# Altium footprint library BGA - Rectangle.PcbLib: 7 footprints
Each footprint in its own frame and in the unit in brackets; x right, y up, seen from the top. Pads: shape width x height; smd on the part's side, far side on the other; paste and mask are expansions set on the pad; w line width, h text height; cw(c..) or ccw(c..) is an arc to the next point about the centre after c.
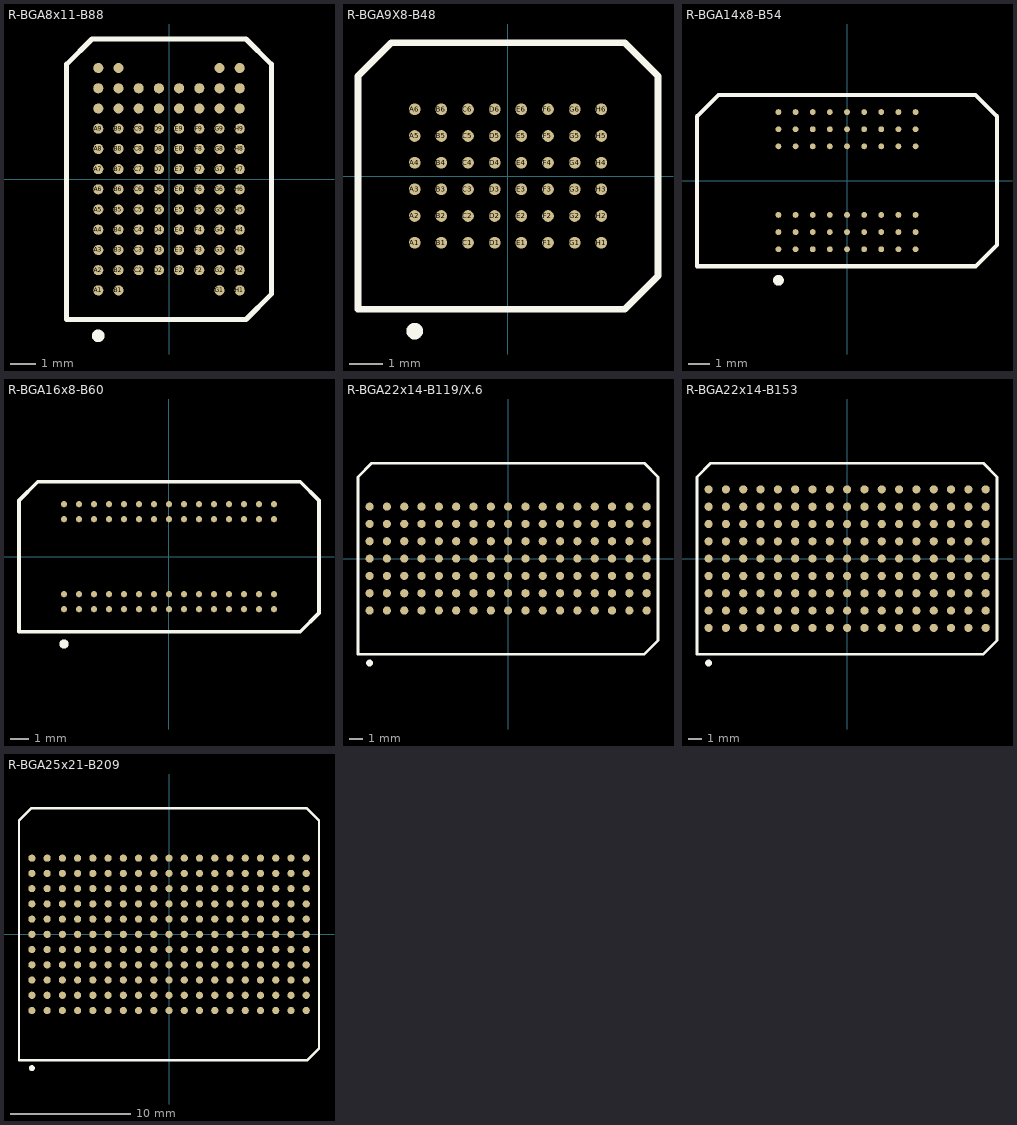
[diagram p0: the footprints below, top view; thin cyan lines are the x and y axes]

## R-BGA8x11-B88 [mm] "88-Pin Ultra FineLine Ball-Grid Array (UBGA)"
height 1.4
pads (88):
  round 0.4 smd: A1(-2.8,-4.4) A2(-2.8,-3.6) A3(-2.8,-2.8) A4(-2.8,-2) A5(-2.8,-1.2) A6(-2.8,-0.4) A7(-2.8,0.4) A8(-2.8,1.2) A9(-2.8,2) A10(-2.8,2.8) A11(-2.8,3.6) A12(-2.8,4.4) B1(-2,-4.4) B2(-2,-3.6) B3(-2,-2.8) B4(-2,-2) B5(-2,-1.2) B6(-2,-0.4) B7(-2,0.4) B8(-2,1.2) B9(-2,2) B10(-2,2.8) B11(-2,3.6) B12(-2,4.4) C2(-1.2,-3.6) C3(-1.2,-2.8) C4(-1.2,-2) C5(-1.2,-1.2) C6(-1.2,-0.4) C7(-1.2,0.4) C8(-1.2,1.2) C9(-1.2,2) C10(-1.2,2.8) C11(-1.2,3.6) D2(-0.4,-3.6) D3(-0.4,-2.8) D4(-0.4,-2) D5(-0.4,-1.2) D6(-0.4,-0.4) D7(-0.4,0.4) D8(-0.4,1.2) D9(-0.4,2) D10(-0.4,2.8) D11(-0.4,3.6) E2(0.4,-3.6) E3(0.4,-2.8) E4(0.4,-2) E5(0.4,-1.2) E6(0.4,-0.4) E7(0.4,0.4) E8(0.4,1.2) E9(0.4,2) E10(0.4,2.8) E11(0.4,3.6) F2(1.2,-3.6) F3(1.2,-2.8) F4(1.2,-2) F5(1.2,-1.2) F6(1.2,-0.4) F7(1.2,0.4) F8(1.2,1.2) F9(1.2,2) F10(1.2,2.8) F11(1.2,3.6) G1(2,-4.4) G2(2,-3.6) G3(2,-2.8) G4(2,-2) G5(2,-1.2) G6(2,-0.4) G7(2,0.4) G8(2,1.2) G9(2,2) G10(2,2.8) G11(2,3.6) G12(2,4.4) H1(2.8,-4.4) H2(2.8,-3.6) H3(2.8,-2.8) H4(2.8,-2) H5(2.8,-1.2) H6(2.8,-0.4) H7(2.8,0.4) H8(2.8,1.2) H9(2.8,2) H10(2.8,2.8) H11(2.8,3.6) H12(2.8,4.4)
Top Overlay:
  circle w0.25: c-2.8,-6.2 r0.125
  lines w0.2: -4.05,-5.55 3.05,-5.55 4.05,-4.55 4.05,4.55 3.05,5.55 -3.05,5.55 -4.05,4.55 -4.05,-5.55

## R-BGA9X8-B48 [mm] "48-Ball Chip Scale Ball Grid Array 0.8mm Pitch (FS48)"
height 1.2
pads (48):
  round 0.35 smd: A1(-2.8,-2) A2(-2.8,-1.2) A3(-2.8,-0.4) A4(-2.8,0.4) A5(-2.8,1.2) A6(-2.8,2) B1(-2,-2) B2(-2,-1.2) B3(-2,-0.4) B4(-2,0.4) B5(-2,1.2) B6(-2,2) C1(-1.2,-2) C2(-1.2,-1.2) C3(-1.2,-0.4) C4(-1.2,0.4) C5(-1.2,1.2) C6(-1.2,2) D1(-0.4,-2) D2(-0.4,-1.2) D3(-0.4,-0.4) D4(-0.4,0.4) D5(-0.4,1.2) D6(-0.4,2) E1(0.4,-2) E2(0.4,-1.2) E3(0.4,-0.4) E4(0.4,0.4) E5(0.4,1.2) E6(0.4,2) F1(1.2,-2) F2(1.2,-1.2) F3(1.2,-0.4) F4(1.2,0.4) F5(1.2,1.2) F6(1.2,2) G1(2,-2) G2(2,-1.2) G3(2,-0.4) G4(2,0.4) G5(2,1.2) G6(2,2) H1(2.8,-2) H2(2.8,-1.2) H3(2.8,-0.4) H4(2.8,0.4) H5(2.8,1.2) H6(2.8,2)
Top Overlay:
  circle w0.25: c-2.8,-4.655 r0.125
  lines w0.2: -4.5,-4 -4.5,3 -3.5,4 3.5,4 4.5,3 4.5,-3 3.5,-4 -4.5,-4

## R-BGA14x8-B54 [mm]
pads (54):
  round 0.27 smd: A1(-3.2,-3.2) A2(-3.2,-2.4) A3(-3.2,-1.6) A7(-3.2,1.6) A8(-3.2,2.4) A9(-3.2,3.2) B1(-2.4,-3.2) B2(-2.4,-2.4) B3(-2.4,-1.6) B7(-2.4,1.6) B8(-2.4,2.4) B9(-2.4,3.2) C1(-1.6,-3.2) C2(-1.6,-2.4) C3(-1.6,-1.6) C7(-1.6,1.6) C8(-1.6,2.4) C9(-1.6,3.2) D1(-0.8,-3.2) D2(-0.8,-2.4) D3(-0.8,-1.6) D7(-0.8,1.6) D8(-0.8,2.4) D9(-0.8,3.2) E1(0,-3.2) E2(0,-2.4) E3(0,-1.6) E7(0,1.6) E8(0,2.4) E9(0,3.2) F1(0.8,-3.2) F2(0.8,-2.4) F3(0.8,-1.6) F7(0.8,1.6) F8(0.8,2.4) F9(0.8,3.2) G1(1.6,-3.2) G2(1.6,-2.4) G3(1.6,-1.6) G7(1.6,1.6) G8(1.6,2.4) G9(1.6,3.2) H1(2.4,-3.2) H2(2.4,-2.4) H3(2.4,-1.6) H7(2.4,1.6) H8(2.4,2.4) H9(2.4,3.2) J1(3.2,-3.2) J2(3.2,-2.4) J3(3.2,-1.6) J7(3.2,1.6) J8(3.2,2.4) J9(3.2,3.2)
Top Overlay:
  circle w0.25: c-3.2,-4.655 r0.125
  lines w0.2: -7,-4 6,-4 7,-3 7,3 6,4 -6,4 -7,3 -7,-4

## R-BGA16x8-B60 [mm] "BGA FBGA \"FB\" Package; 60 Balls; Body 8 x 16 mm; Pitch 0.8 mm"
height 1.2
pads (60):
  round 0.33 smd: A1(-5.6,-2.8) A2(-5.6,-2) A7(-5.6,2) A8(-5.6,2.8) B1(-4.8,-2.8) B2(-4.8,-2) B7(-4.8,2) B8(-4.8,2.8) C1(-4,-2.8) C2(-4,-2) C7(-4,2) C8(-4,2.8) D1(-3.2,-2.8) D2(-3.2,-2) D7(-3.2,2) D8(-3.2,2.8) E1(-2.4,-2.8) E2(-2.4,-2) E7(-2.4,2) E8(-2.4,2.8) F1(-1.6,-2.8) F2(-1.6,-2) F7(-1.6,2) F8(-1.6,2.8) G1(-0.8,-2.8) G2(-0.8,-2) G7(-0.8,2) G8(-0.8,2.8) H1(0,-2.8) H2(0,-2) H7(0,2) H8(0,2.8) J1(0.8,-2.8) J2(0.8,-2) J7(0.8,2) J8(0.8,2.8) K1(1.6,-2.8) K2(1.6,-2) K7(1.6,2) K8(1.6,2.8) L1(2.4,-2.8) L2(2.4,-2) L7(2.4,2) L8(2.4,2.8) M1(3.2,-2.8) M2(3.2,-2) M7(3.2,2) M8(3.2,2.8) N1(4,-2.8) N2(4,-2) N7(4,2) N8(4,2.8) P1(4.8,-2.8) P2(4.8,-2) P7(4.8,2) P8(4.8,2.8) R1(5.6,-2.8) R2(5.6,-2) R7(5.6,2) R8(5.6,2.8)
Top Overlay:
  circle w0.25: c-5.6,-4.655 r0.125
  lines w0.2: -8,-4 7,-4 8,-3 8,3 7,4 -7,4 -8,3 -8,-4

## R-BGA22x14-B119/X.6 [mm] "BGA; 119 Balls; Body 22 x 14 mm; Pitch 1.27 mm"
height 3.5
pads (119):
  round 0.6 smd: A1(-10.16,-3.81) A2(-10.16,-2.54) A3(-10.16,-1.27) A4(-10.16,0) A5(-10.16,1.27) A6(-10.16,2.54) A7(-10.16,3.81) B1(-8.89,-3.81) B2(-8.89,-2.54) B3(-8.89,-1.27) B4(-8.89,0) B5(-8.89,1.27) B6(-8.89,2.54) B7(-8.89,3.81) C1(-7.62,-3.81) C2(-7.62,-2.54) C3(-7.62,-1.27) C4(-7.62,0) C5(-7.62,1.27) C6(-7.62,2.54) C7(-7.62,3.81) D1(-6.35,-3.81) D2(-6.35,-2.54) D3(-6.35,-1.27) D4(-6.35,0) D5(-6.35,1.27) D6(-6.35,2.54) D7(-6.35,3.81) E1(-5.08,-3.81) E2(-5.08,-2.54) E3(-5.08,-1.27) E4(-5.08,0) E5(-5.08,1.27) E6(-5.08,2.54) E7(-5.08,3.81) F1(-3.81,-3.81) F2(-3.81,-2.54) F3(-3.81,-1.27) F4(-3.81,0) F5(-3.81,1.27) F6(-3.81,2.54) F7(-3.81,3.81) G1(-2.54,-3.81) G2(-2.54,-2.54) G3(-2.54,-1.27) G4(-2.54,0) G5(-2.54,1.27) G6(-2.54,2.54) G7(-2.54,3.81) H1(-1.27,-3.81) H2(-1.27,-2.54) H3(-1.27,-1.27) H4(-1.27,0) H5(-1.27,1.27) H6(-1.27,2.54) H7(-1.27,3.81) J1(0,-3.81) J2(0,-2.54) J3(0,-1.27) J4(0,0) J5(0,1.27) J6(0,2.54) J7(0,3.81) K1(1.27,-3.81) K2(1.27,-2.54) K3(1.27,-1.27) K4(1.27,0) K5(1.27,1.27) K6(1.27,2.54) K7(1.27,3.81) L1(2.54,-3.81) L2(2.54,-2.54) L3(2.54,-1.27) L4(2.54,0) L5(2.54,1.27) L6(2.54,2.54) L7(2.54,3.81) M1(3.81,-3.81) M2(3.81,-2.54) M3(3.81,-1.27) M4(3.81,0) M5(3.81,1.27) M6(3.81,2.54) M7(3.81,3.81) N1(5.08,-3.81) N2(5.08,-2.54) N3(5.08,-1.27) N4(5.08,0) N5(5.08,1.27) N6(5.08,2.54) N7(5.08,3.81) P1(6.35,-3.81) P2(6.35,-2.54) P3(6.35,-1.27) P4(6.35,0) P5(6.35,1.27) P6(6.35,2.54) P7(6.35,3.81) R1(7.62,-3.81) R2(7.62,-2.54) R3(7.62,-1.27) R4(7.62,0) R5(7.62,1.27) R6(7.62,2.54) R7(7.62,3.81) T1(8.89,-3.81) T2(8.89,-2.54) T3(8.89,-1.27) T4(8.89,0) T5(8.89,1.27) T6(8.89,2.54) T7(8.89,3.81) U1(10.16,-3.81) U2(10.16,-2.54) U3(10.16,-1.27) U4(10.16,0) U5(10.16,1.27) U6(10.16,2.54) U7(10.16,3.81)
Top Overlay:
  circle w0.25: c-10.16,-7.66 r0.125
  lines w0.2: -11.01,-7.01 9.99,-7.01 10.99,-6.01 10.99,5.99 9.99,6.99 -10.01,6.99 -11.01,5.99 -11.01,-7.01

## R-BGA22x14-B153 [mm] "BGA; 153 Balls; Body 22 x 14 mm; Pitch 1.27 mm"
height 3.5
pads (153):
  round 0.6 smd: A1(-10.16,-5.08) A2(-10.16,-3.81) A3(-10.16,-2.54) A4(-10.16,-1.27) A5(-10.16,0) A6(-10.16,1.27) A7(-10.16,2.54) A8(-10.16,3.81) A9(-10.16,5.08) B1(-8.89,-5.08) B2(-8.89,-3.81) B3(-8.89,-2.54) B4(-8.89,-1.27) B5(-8.89,0) B6(-8.89,1.27) B7(-8.89,2.54) B8(-8.89,3.81) B9(-8.89,5.08) C1(-7.62,-5.08) C2(-7.62,-3.81) C3(-7.62,-2.54) C4(-7.62,-1.27) C5(-7.62,0) C6(-7.62,1.27) C7(-7.62,2.54) C8(-7.62,3.81) C9(-7.62,5.08) D1(-6.35,-5.08) D2(-6.35,-3.81) D3(-6.35,-2.54) D4(-6.35,-1.27) D5(-6.35,0) D6(-6.35,1.27) D7(-6.35,2.54) D8(-6.35,3.81) D9(-6.35,5.08) E1(-5.08,-5.08) E2(-5.08,-3.81) E3(-5.08,-2.54) E4(-5.08,-1.27) E5(-5.08,0) E6(-5.08,1.27) E7(-5.08,2.54) E8(-5.08,3.81) E9(-5.08,5.08) F1(-3.81,-5.08) F2(-3.81,-3.81) F3(-3.81,-2.54) F4(-3.81,-1.27) F5(-3.81,0) F6(-3.81,1.27) F7(-3.81,2.54) F8(-3.81,3.81) F9(-3.81,5.08) G1(-2.54,-5.08) G2(-2.54,-3.81) G3(-2.54,-2.54) G4(-2.54,-1.27) G5(-2.54,0) G6(-2.54,1.27) G7(-2.54,2.54) G8(-2.54,3.81) G9(-2.54,5.08) H1(-1.27,-5.08) H2(-1.27,-3.81) H3(-1.27,-2.54) H4(-1.27,-1.27) H5(-1.27,0) H6(-1.27,1.27) H7(-1.27,2.54) H8(-1.27,3.81) H9(-1.27,5.08) J1(0,-5.08) J2(0,-3.81) J3(0,-2.54) J4(0,-1.27) J5(0,0) J6(0,1.27) J7(0,2.54) J8(0,3.81) J9(0,5.08) K1(1.27,-5.08) K2(1.27,-3.81) K3(1.27,-2.54) K4(1.27,-1.27) K5(1.27,0) K6(1.27,1.27) K7(1.27,2.54) K8(1.27,3.81) K9(1.27,5.08) L1(2.54,-5.08) L2(2.54,-3.81) L3(2.54,-2.54) L4(2.54,-1.27) L5(2.54,0) L6(2.54,1.27) L7(2.54,2.54) L8(2.54,3.81) L9(2.54,5.08) M1(3.81,-5.08) M2(3.81,-3.81) M3(3.81,-2.54) M4(3.81,-1.27) M5(3.81,0) M6(3.81,1.27) M7(3.81,2.54) M8(3.81,3.81) M9(3.81,5.08) N1(5.08,-5.08) N2(5.08,-3.81) N3(5.08,-2.54) N4(5.08,-1.27) N5(5.08,0) N6(5.08,1.27) N7(5.08,2.54) N8(5.08,3.81) N9(5.08,5.08) P1(6.35,-5.08) P2(6.35,-3.81) P3(6.35,-2.54) P4(6.35,-1.27) P5(6.35,0) P6(6.35,1.27) P7(6.35,2.54) P8(6.35,3.81) P9(6.35,5.08) R1(7.62,-5.08) R2(7.62,-3.81) R3(7.62,-2.54) R4(7.62,-1.27) R5(7.62,0) R6(7.62,1.27) R7(7.62,2.54) R8(7.62,3.81) R9(7.62,5.08) T1(8.89,-5.08) T2(8.89,-3.81) T3(8.89,-2.54) T4(8.89,-1.27) T5(8.89,0) T6(8.89,1.27) T7(8.89,2.54) T8(8.89,3.81) T9(8.89,5.08) U1(10.16,-5.08) U2(10.16,-3.81) U3(10.16,-2.54) U4(10.16,-1.27) U5(10.16,0) U6(10.16,1.27) U7(10.16,2.54) U8(10.16,3.81) U9(10.16,5.08)
Top Overlay:
  circle w0.25: c-10.16,-7.655 r0.125
  lines w0.2: -11.01,-7.005 -11.01,5.995 -10.01,6.995 9.99,6.995 10.99,5.995 10.99,-6.005 9.99,-7.005 -11.01,-7.005

## R-BGA25x21-B209 [mm] "BGA; 209 Balls; Body 25 x 21 mm; Pitch 1.27 mm"
height 3.5
pads (209):
  round 0.6 smd: A1(-11.43,-6.35) A2(-11.43,-5.08) A3(-11.43,-3.81) A4(-11.43,-2.54) A5(-11.43,-1.27) A6(-11.43,0) A7(-11.43,1.27) A8(-11.43,2.54) A9(-11.43,3.81) A10(-11.43,5.08) A11(-11.43,6.35) B1(-10.16,-6.35) B2(-10.16,-5.08) B3(-10.16,-3.81) B4(-10.16,-2.54) B5(-10.16,-1.27) B6(-10.16,0) B7(-10.16,1.27) B8(-10.16,2.54) B9(-10.16,3.81) B10(-10.16,5.08) B11(-10.16,6.35) C1(-8.89,-6.35) C2(-8.89,-5.08) C3(-8.89,-3.81) C4(-8.89,-2.54) C5(-8.89,-1.27) C6(-8.89,0) C7(-8.89,1.27) C8(-8.89,2.54) C9(-8.89,3.81) C10(-8.89,5.08) C11(-8.89,6.35) D1(-7.62,-6.35) D2(-7.62,-5.08) D3(-7.62,-3.81) D4(-7.62,-2.54) D5(-7.62,-1.27) D6(-7.62,0) D7(-7.62,1.27) D8(-7.62,2.54) D9(-7.62,3.81) D10(-7.62,5.08) D11(-7.62,6.35) E1(-6.35,-6.35) E2(-6.35,-5.08) E3(-6.35,-3.81) E4(-6.35,-2.54) E5(-6.35,-1.27) E6(-6.35,0) E7(-6.35,1.27) E8(-6.35,2.54) E9(-6.35,3.81) E10(-6.35,5.08) E11(-6.35,6.35) F1(-5.08,-6.35) F2(-5.08,-5.08) F3(-5.08,-3.81) F4(-5.08,-2.54) F5(-5.08,-1.27) F6(-5.08,0) F7(-5.08,1.27) F8(-5.08,2.54) F9(-5.08,3.81) F10(-5.08,5.08) F11(-5.08,6.35) G1(-3.81,-6.35) G2(-3.81,-5.08) G3(-3.81,-3.81) G4(-3.81,-2.54) G5(-3.81,-1.27) G6(-3.81,0) G7(-3.81,1.27) G8(-3.81,2.54) G9(-3.81,3.81) G10(-3.81,5.08) G11(-3.81,6.35) H1(-2.54,-6.35) H2(-2.54,-5.08) H3(-2.54,-3.81) H4(-2.54,-2.54) H5(-2.54,-1.27) H6(-2.54,0) H7(-2.54,1.27) H8(-2.54,2.54) H9(-2.54,3.81) H10(-2.54,5.08) H11(-2.54,6.35) J1(-1.27,-6.35) J2(-1.27,-5.08) J3(-1.27,-3.81) J4(-1.27,-2.54) J5(-1.27,-1.27) J6(-1.27,0) J7(-1.27,1.27) J8(-1.27,2.54) J9(-1.27,3.81) J10(-1.27,5.08) J11(-1.27,6.35) K1(0,-6.35) K2(0,-5.08) K3(0,-3.81) K4(0,-2.54) K5(0,-1.27) K6(0,0) K7(0,1.27) K8(0,2.54) K9(0,3.81) K10(0,5.08) K11(0,6.35) L1(1.27,-6.35) L2(1.27,-5.08) L3(1.27,-3.81) L4(1.27,-2.54) L5(1.27,-1.27) L6(1.27,0) L7(1.27,1.27) L8(1.27,2.54) L9(1.27,3.81) L10(1.27,5.08) L11(1.27,6.35) M1(2.54,-6.35) M2(2.54,-5.08) M3(2.54,-3.81) M4(2.54,-2.54) M5(2.54,-1.27) M6(2.54,0) M7(2.54,1.27) M8(2.54,2.54) M9(2.54,3.81) M10(2.54,5.08) M11(2.54,6.35) N1(3.81,-6.35) N2(3.81,-5.08) N3(3.81,-3.81) N4(3.81,-2.54) N5(3.81,-1.27) N6(3.81,0) N7(3.81,1.27) N8(3.81,2.54) N9(3.81,3.81) N10(3.81,5.08) N11(3.81,6.35) P1(5.08,-6.35) P2(5.08,-5.08) P3(5.08,-3.81) P4(5.08,-2.54) P5(5.08,-1.27) P6(5.08,0) P7(5.08,1.27) P8(5.08,2.54) P9(5.08,3.81) P10(5.08,5.08) P11(5.08,6.35) R1(6.35,-6.35) R2(6.35,-5.08) R3(6.35,-3.81) R4(6.35,-2.54) R5(6.35,-1.27) R6(6.35,0) R7(6.35,1.27) R8(6.35,2.54) R9(6.35,3.81) R10(6.35,5.08) R11(6.35,6.35) T1(7.62,-6.35) T2(7.62,-5.08) T3(7.62,-3.81) T4(7.62,-2.54) T5(7.62,-1.27) T6(7.62,0) T7(7.62,1.27) T8(7.62,2.54) T9(7.62,3.81) T10(7.62,5.08) T11(7.62,6.35) U1(8.89,-6.35) U2(8.89,-5.08) U3(8.89,-3.81) U4(8.89,-2.54) U5(8.89,-1.27) U6(8.89,0) U7(8.89,1.27) U8(8.89,2.54) U9(8.89,3.81) U10(8.89,5.08) U11(8.89,6.35) V1(10.16,-6.35) V2(10.16,-5.08) V3(10.16,-3.81) V4(10.16,-2.54) V5(10.16,-1.27) V6(10.16,0) V7(10.16,1.27) V8(10.16,2.54) V9(10.16,3.81) V10(10.16,5.08) V11(10.16,6.35) W1(11.43,-6.35) W2(11.43,-5.08) W3(11.43,-3.81) W4(11.43,-2.54) W5(11.43,-1.27) W6(11.43,0) W7(11.43,1.27) W8(11.43,2.54) W9(11.43,3.81) W10(11.43,5.08) W11(11.43,6.35)
Top Overlay:
  circle w0.25: c-11.43,-11.15 r0.125
  lines w0.2: -12.505,-10.5 11.495,-10.5 12.495,-9.5 12.495,9.5 11.495,10.5 -11.505,10.5 -12.505,9.5 -12.505,-10.5